# EAGLE library part CY8C21434 (library CypressPSoC_0.30)
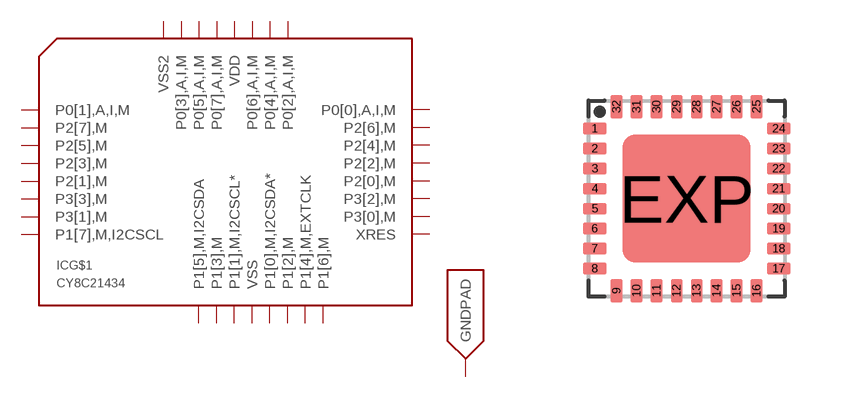
[diagram p3: symbol with the pads of QFN32; footprint QFN32]

Designator prefix IC; gates G$1=CY8C21434 G$2=GNDPAD

## CY8C21434_QFN32  [QFN32]
1  G$1:P0[1],A,I,M
2  G$1:P2[7],M
3  G$1:P2[5],M
4  G$1:P2[3],M
5  G$1:P2[1],M
6  G$1:P3[3],M
7  G$1:P3[1],M
8  G$1:P1[7],M,I2CSCL
9  G$1:P1[5],M,I2CSDA
10  G$1:P1[3],M
11  G$1:P1[1],M,I2CSCL*
12  G$1:VSS  pwr
13  G$1:P1[0],M,I2CSDA*
14  G$1:P1[2],M
15  G$1:P1[4],M,EXTCLK
16  G$1:P1[6],M
17  G$1:XRES
18  G$1:P3[0],M
19  G$1:P3[2],M
20  G$1:P2[0],M
21  G$1:P2[2],M
22  G$1:P2[4],M
23  G$1:P2[6],M
24  G$1:P0[0],A,I,M
25  G$1:P0[2],A,I,M
26  G$1:P0[4],A,I,M
27  G$1:P0[6],A,I,M
28  G$1:VDD  pwr
29  G$1:P0[7],A,I,M
30  G$1:P0[5],A,I,M
31  G$1:P0[3],A,I,M
32  G$1:VSS2  pwr
EXP  G$2:GNDPAD  pwr

## Footprint QFN32 (pad centres in mm)
QFN 32 Source: http://www.ftdichip.com/Documents/DataSheets/DS_FT232R_v104.pdf
smd 0.6 x 0.3: 1 -2.3,1.75; 2 -2.3,1.25; 3 -2.3,0.75; 4 -2.3,0.25; 5 -2.3,-0.25; 6 -2.3,-0.75; 7 -2.3,-1.25; 8 -2.3,-1.75; 17 2.3,-1.75; 18 2.3,-1.25; 19 2.3,-0.75; 20 2.3,-0.25; 21 2.3,0.25; 22 2.3,0.75; 23 2.3,1.25; 24 2.3,1.75
smd 0.3 x 0.6: 9 -1.75,-2.3; 10 -1.25,-2.3; 11 -0.75,-2.3; 12 -0.25,-2.3; 13 0.25,-2.3; 14 0.75,-2.3; 15 1.25,-2.3; 16 1.75,-2.3; 25 1.75,2.3; 26 1.25,2.3; 27 0.75,2.3; 28 0.25,2.3; 29 -0.25,2.3; 30 -0.75,2.3; 31 -1.25,2.3; 32 -1.75,2.3
smd 3.2 x 3.2: EXP 0,0